# EAGLE library part J4 (library pcb_library)
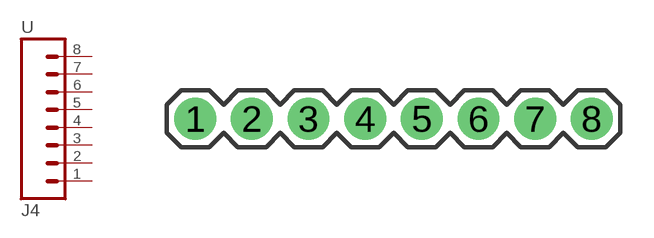
[diagram p13: symbol with the pads of J4; footprint J4]

Designator prefix -

## J4  [J4]
1  1.GND  pas
2  2.5V  pas
3  3.B7  pas
4  4.B8  pas
5  5.B9  pas
6  6.B13  pas
7  7.B14  pas
8  8.B15  pas

## Footprint J4 (pad centres in mm)
drill 1.016 pad 1.88: 1 0,0; 2 2.54,0; 3 5.08,0; 4 7.62,0; 5 10.16,0; 6 12.7,0; 7 15.24,0; 8 17.78,0